# Altium schematic symbol library HW_HOLLAND_NCDM_MONITOR_R1.SchLib: 617 symbols (part 2 of 7)
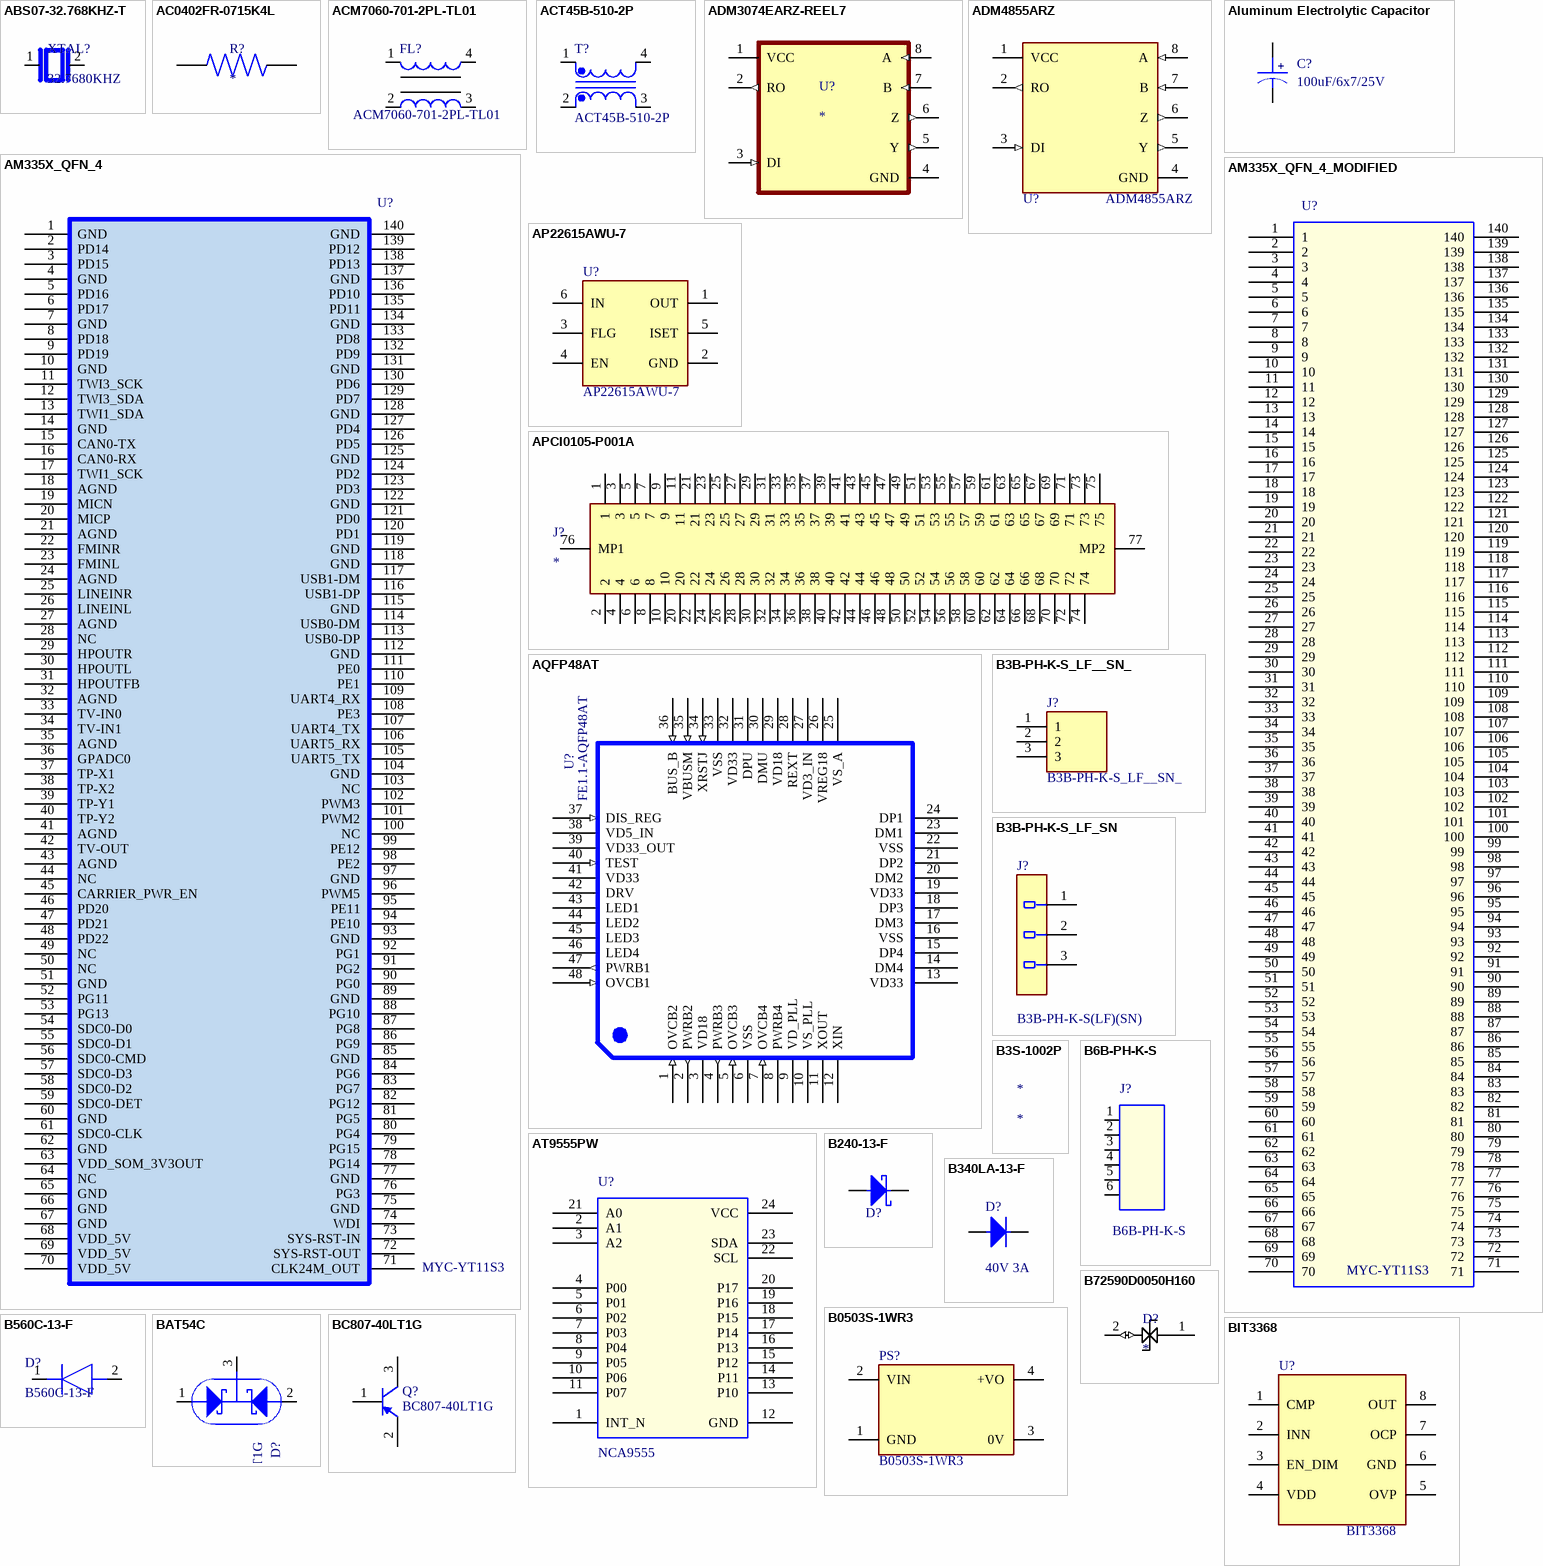
[diagram p20: symbols ABS07-32.768KHZ-T to BIT3368]

## AM335X_QFN_4_MODIFIED
designator U?, comment MYC-YT11S3
PCB Footprint: youpk37x39_1_00-smd-148
footprint youpk37x39_1_00-smd-148
pins: 1, 2, 3, 4, 5, 6, 7, 8, 9, 10, 11, 12, 13, 14, 15, 16, 17, 18, 19, 20, 21, 22, 23, 24, 25, 26, 27, 28, 29, 30, 31, 32, 33, 34, 35, 36, 37, 38, 39, 40, 41, 42, 43, 44, 45, 46, 47, 48, 49, 50, 51, 52, 53, 54, 55, 56, 57, 58, 59, 60, 61, 62, 63, 64, 65, 66, 67, 68, 69, 70, 71, 72, 73, 74, 75, 76, 77, 78, 79, 80, 81, 82, 83, 84, 85, 86, 87, 88, 89, 90, 91, 92, 93, 94, 95, 96, 97, 98, 99, 100, 101, 102, 103, 104, 105, 106, 107, 108, 109, 110, 111, 112, 113, 114, 115, 116, 117, 118, 119, 120, 121, 122, 123, 124, 125, 126, 127, 128, 129, 130, 131, 132, 133, 134, 135, 136, 137, 138, 139, 140

## AP22615AWU-7
designator U?, comment Manufacturer Part Number: AP22615AWU-7  (hidden comment: IC PWR SWTCH N/P-CHAN 1:1 TSOT26)
Power Switch/Driver 1:1 N/P-Channel 3A TSOT-26; Order Code: Digi: AP22615AWU-7DITR-ND; LCSC Manufacturer Part Number: AP22615AWU-7; LCSC Part Number: C2680357
footprint SOT95P280X100-6N
pins: 1 OUT, 2 GND, 3 FLG, 4 EN, 5 ISET, 6 IN

## APCI0105-P001A
designator J?
Connector; Manufacturer_Name: LOTES; Manufacturer_Part_Number: APCI0105-P001A; Datasheet Link: https://wmsc.lcsc.com/wmsc/upload/file/pdf/v2/lcsc/2010161204_LOTES-APCI0105-P001A_C841658.pdf; Height: 4.2mm
footprint APCI0105P001A
pins: 1, 2, 3, 4, 5, 6, 7, 8, 9, 10, 11, 20, 21, 22, 23, 24, 25, 26, 27, 28, 29, 30, 31, 32, 33, 34, 35, 36, 37, 38, 39, 40, 41, 42, 43, 44, 45, 46, 47, 48, 49, 50, 51, 52, 53, 54, 55, 56, 57, 58, 59, 60, 61, 62, 63, 64, 65, 66, 67, 68, 69, 70, 71, 72, 73, 74, 75, 76 MP1, 77 MP2

## AQFP48AT
designator U?, comment FE1.1-AQFP48AT
IC,USB 2.0 HIGH SPEED 4-PORT HUB CONTROLLER,QFN48,SMD,Terminus; PCB Footprint: LQFP48; Myir P/N: 20107.00076; Datasheet: FE1.1-AQFP48AT.pdf; Reserve Value: FE1.1-AQFP48AT; Manufacturer P/N: FE1.1-AQFP48AT; Manufacturer: Terminus; Part Type: Interface
footprint QFP48
footprint LQFP48
pins: 1 OVCB2 (in), 2 PWRB2 (out), 3 VD18 (power), 4 PWRB3 (out), 5 OVCB3 (in), 6 VSS (power), 7 OVCB4 (in), 8 PWRB4, 9 VD_PLL (power), 10 VS_PLL (power), 11 XOUT, 12 XIN, 13 VD33 (power), 14 DM4, 15 DP4, 16 VSS (power), 17 DM3, 18 DP3, 19 VD33 (power), 20 DM2, 21 DP2, 22 VSS (power), 23 DM1, 24 DP1, 25 VS_A (power), 26 VREG18 (power), 27 VD3_IN (power), 28 REXT, 29 VD18 (power), 30 DMU, 31 DPU, 32 VD33 (power), 33 VSS (power), 34 XRSTJ (in), 35 VBUSM (in), 36 BUS_B (in), 37 DIS_REG (in), 38 VD5_IN (power), 39 VD33_OUT (power), 40 TEST (in), 41 VD33 (power), 42 DRV, 43 LED1, 44 LED2, 45 LED3, 46 LED4, 47 PWRB1 (out), 48 OVCB1 (in)

## AT9555PW
designator U?, comment NCA9555
IC,16-bit I2C-bus I/O port with interrupt,TSSOP24,Novosense; Myir P/N: 20703.80023; Part Type: Interface; Manufacturer: Novosense; Manufacturer P/N: NCA9555; Reserve Value: NCA9555; Datasheet: NCA9555.pdf; PCB Footprint: TSSOP24
footprint TSSOP24
pins: 1 INT_N, 2 A1, 3 A2, 4 P00, 5 P01, 6 P02, 7 P03, 8 P04, 9 P05, 10 P06, 11 P07, 12 GND, 13 P10, 14 P11, 15 P12, 16 P13, 17 P14, 18 P15, 19 P16, 20 P17, 21 A0, 22 SCL, 23 SDA, 24 VCC

## B3B-PH-K-S_LF__SN_
designator J?
Connector; Manufacturer_Name: JST (JAPAN SOLDERLESS TERMINALS); Manufacturer_Part_Number: B3B-PH-K-S(LF)(SN); Datasheet Link: http://www.jst-mfg.com/product/pdf/eng/ePH.pdf; Height: 6mm; LCSC Manufacturer Part Number: B3B-PH-K-S(LF)(SN); Arrow Part Number: B3B-PH-K-S(LF)(SN); Arrow Price/Stock: https://www.arrow.com/en/products/b3b-ph-k-s-lf-sn/jst-manufacturing; LCSC Part Number: C131339
footprint SHDR3W50P0X200_1X3_790X450X600P
pins: 1, 2, 3

## B3B-PH-K-S_LF_SN
designator J?  (value not drawn)
Manufacturer Part Number: B3B-PH-K-S(LF)(SN); Order Code: DIGI : 455-1705-ND; Part Number: B3B-PH-K-S(LF)(SN)
footprint JST_B3B-PH-K-S_LF_SN_0
pins: 1, 2, 3

## B3S-1002P
designator *
Switch Tactile N.O. SPST Round Button Gull Wing 0.05A 24VDC 300000Cycles 2.26N SMD T/R; Manufacturer: Omron; Manufacturer Part Number: B3S-1002P; Number of Positions: 2NUMBER; Supplier 1: Digikey; RoHS: Yes; Category: Tactile Switches; Stock 1: 127000; Pricing 1: 1000=0.57994, 3000=0.52722, 5000=0.49207, 10000=0.45692 (USD); Contact Material: 150ConductorMaterial; Contact Plating: 159ConductorMaterial; Lead Free: 5697LeadFree; ComponentLink1URL: https://datasheet.ciiva.com/1701/490609-1701107.pdf?src-supplier=Newark; ComponentLink1Description: https://datasheet.ciiva.com/1701/490609-1701107.pdf?src-supplier=Newark; ComponentLink2URL: https://datasheet.ciiva.com/15198/getdatasheetpartid-174803-15198988.pdf?src-supplier=Verical; ComponentLink2Description: https://datasheet.ciiva.com/15198/getdatasheetpartid-174803-15198988.pdf?src-supplier=Verical; ComponentLink3URL: https://datasheet.ciiva.com/15198/getdatasheetpartid-388874-15198987.pdf?src-supplier=Verical; ComponentLink3Description: https://datasheet.ciiva.com/15198/getdatasheetpartid-388874-15198987.pdf?src-supplier=Verical; ComponentLink4URL: https://datasheet.ciiva.com/30228/en-b3s-30228152.pdf?src-supplier=Onlinecomponents.com; ComponentLink4Description: https://datasheet.ciiva.com/30228/en-b3s-30228152.pdf?src-supplier=Onlinecomponents.com; ComponentLink5URL: https://datasheet.ciiva.com/2899/b3s-1110-2899956.pdf?src-supplier=Digikey; ComponentLink5Description: https://datasheet.ciiva.com/2899/b3s-1110-2899956.pdf?src-supplier=Digikey; ComponentLink6URL: https://datasheet.ciiva.com/2899/b3s-1110-2899957.pdf?src-supplier=Digikey; ComponentLink6Description: https://datasheet.ciiva.com/2899/b3s-1110-2899957.pdf?src-supplier=Digikey; ComponentLink7URL: https://datasheet.ciiva.com/2899/b3s-1110-2899958.pdf?src-supplier=Digikey; ComponentLink7Description: https://datasheet.ciiva.com/2899/b3s-1110-2899958.pdf?src-supplier=Digikey; Supplier Part Number 1: SW837TR-ND

## B6B-PH-K-S
designator J?
Connector,Straight,Top type 6Pin 2.0mm Pitch H=6mm,DIP,JST; PCB Footprint: CONN-B6B-PH-K-S; Myir P/N: 21122.00013; Datasheet: B6B-PH-K-S.pdf; Reserve Value: B6B-PH-K-S; Manufacturer P/N: B6B-PH-K-S; Manufacturer: JST; Part Type: Connector
footprint B6B-PH-K-S
footprint CONN-B6B-PH-K-S
pins: 1, 2, 3, 4, 5, 6

## B240-13-F
designator D?, comment 40V 2A  (value not drawn)
Diode 40 V 2A Surface Mount SMB; Manufacturer Part Number: B240-13-F; Manufacturer: Diodes Incorporated
footprint Diodes_Inc._SMB_MFG
pins: 1 C, 2 A

## B340LA-13-F
designator D?, comment Rated: 40V 3A  (hidden comment: DIODE SCHOTTKY 40V 3A SMA)
Diode 40 V 3A Surface Mount SMA; Manufacturer Part Number: B340LA-13-F
footprint Diodes_SMA_0
pins: 1 C, 2 A

## B0503S-1WR3
designator PS?
Isolated Module DC DC Converter 1 Output 3.3V 303mA 4.5V - 5.5V Input; Manufacturer_Name: Mornsun Power; Height: 10.41mm; Manufacturer Part Number: B0503S-1WR3
footprint B0503S1WR3
pins: 1 GND, 2 VIN, 3 0V, 4 +VO

## B560C-13-F
designator D?
Manufacturer_Name: Diodes Incorporated; Datasheet Link: https://datasheet.lcsc.com/szlcsc/Diodes-Incorporated-B560C-13-F_C85100.pdf; Height: 2.5mm; Manufacturer_Part_Number: B560C-13-F; Mouser Part Number: 621-B560C-F; Mouser Price/Stock: https://www.mouser.co.uk/ProductDetail/Diodes-Incorporated/B560C-13-F?qs=OC0R%252Bhozcm%252BAsjMXklZLIw%3D%3D; Arrow Part Number: B560C-13-F; Arrow Price/Stock: https://www.arrow.com/en/products/b560c-13-f/diodes-incorporated?utm_currency=USD&region=nac
footprint DIOM7959X250N
pins: 1 K, 2 A

## B72590D0050H160
designator D?
VARISTOR 150V 0402; Manufacturer: TDK EPCOS; Manufacturer Part Number: B72590D0050H160; Supplier 1: Digikey; RoHS: Yes; Category: Varistors; Stock 1: 130000; Pricing 1: 10000=0,04977, 30000=0,04666, 50000=0,04137, 100000=0,04044, 250000=0,03982 (USD); ComponentLink1URL: https://datasheet.octopart.com/B72590D0050H160-EPCOS-datasheet-10468447.pdf?src-supplier=Newark; ComponentLink1Description: https://datasheet.octopart.com/B72590D0050H160-EPCOS-datasheet-10468447.pdf?src-supplier=Newark; ComponentLink2URL: https://en.tdk.eu/inf/75/ds/High_speed_series.pdf?src-supplier=Verical; ComponentLink2Description: https://en.tdk.eu/inf/75/ds/High_speed_series.pdf?src-supplier=Verical; ComponentLink3URL: http://www.farnell.com/datasheets/1706828.pdf?src-supplier=Newark; ComponentLink3Description: http://www.farnell.com/datasheets/1706828.pdf?src-supplier=Newark; ComponentLink4URL: https://en.tdk.eu/inf/75/ds/High_speed_series.pdf?src-supplier=Digikey; ComponentLink4Description: https://en.tdk.eu/inf/75/ds/High_speed_series.pdf?src-supplier=Digikey; ComponentLink5URL: https://www.tdk-electronics.tdk.com/inf/75/ds/High_speed_series.pdf?src-supplier=Digikey; ComponentLink5Description: https://www.tdk-electronics.tdk.com/inf/75/ds/High_speed_series.pdf?src-supplier=Digikey; ComponentLink6URL: https://en.tdk.eu/inf/75/ds/High_speed_series.pdf?src-supplier=Arrow+Electronics; ComponentLink6Description: https://en.tdk.eu/inf/75/ds/High_speed_series.pdf?src-supplier=Arrow+Electronics; ComponentLink7URL: https://en.tdk.eu/inf/75/ds/High_speed_series.pdf?src-supplier=Quest; ComponentLink7Description: https://en.tdk.eu/inf/75/ds/High_speed_series.pdf?src-supplier=Quest; ComponentLink8URL: https://datasheet.octopart.com/B72590D0050H160-EPCOS-datasheet-157245974.pdf?src-supplier=LKR; ComponentLink8Description: https://datasheet.octopart.com/B72590D0050H160-EPCOS-datasheet-157245974.pdf?src-supplier=LKR; ComponentLink9URL: https://en.tdk.eu/inf/75/ds/High_speed_series.pdf?src-supplier=TTI; ComponentLink9Description: https://en.tdk.eu/inf/75/ds/High_speed_series.pdf?src-supplier=TTI; Supplier Part Number 1: 495-3684-2-ND
footprint SOD1005X60N
pins: 1 GND, 2 I/OLINE (io)

## BAT54C
designator D?, comment LBAT54CLT1G
Diode Dual Schottky,30V,200mA,SMD,SOT-23,LRC; Myir P/N: 20701.00054; PCB Footprint: SOT-23; Part Type: Diode; Manufacturer: LRC; Manufacturer P/N: LBAT54CLT1G; Reserve Value: LBAT54CLT1G; Datasheet: LBAT54CLT1G.pdf
footprint SOT23T02
footprint SOT-23
pins: 1 ANODE, 2 NC, 3 CATHODE

## BC807-40LT1G
designator Q?
General Purpose Transistor, PNP Silicon, 3-Pin SOT-23, Pb-Free, Tape and Reel; Manufacturer: ON Semiconductor; Max Power Dissipation: 300mW; hFE Min: 250; Number of Elements: 1; Collector Emitter Voltage (VCEO): 45V; Frequency: 100MHz; Emitter Base Voltage (VEBO): 5V; Max Collector Current: 500mA; Collector Base Voltage (VCBO): 50V; Collector Emitter Saturation Voltage: -700mV; Element Configuration: Single; Collector-emitter Voltage-Max: 700mV; ComponentLink3URL: http://www.onsemi.cn/pub_link/Collateral/318-08.PDF; ComponentLink1URL: http://www.onsemi.com/; ComponentLink2URL: http://www.onsemi.com/pub_link/Collateral/BC807-16LT1-D.PDF; ComponentLink1Description: Manufacturer URL; ComponentLink3Description: Package Specification; ComponentLink2Description: Datasheet; Supplier 1: Digi-Key; Supplier Part Number 1: BC807-40LT1GOSCT-ND; Manufacturer Part Number: BC807-40LT1G; RoHS: Yes; Category: BJTs; Pricing 1: 1=0,21000, 10=0,19600, 100=0,10690, 500=0,06576, 1000=0,04484 (USD); Case/Package: SOT-23-3; Number of Pins: 3; Contact Plating: Tin,Matte; Min Operating Temperature: -55°C; Max Operating Temperature: 150°C; Package Quantity: 1; Packaging: Tape and Reel; Polarity: PNP; Transition Frequency: 100MHz; Collector Emitter Breakdown Voltage: 45V; Power Dissipation: 300mW; Gain Bandwidth Product: 100MHz; Series: BC807-40L; Max Breakdown Voltage: 45V; Max Frequency: 100MHz; Length: 2.9mm; Width: 1.3mm; Height: 0.94mm; Radiation Hardening: No; Lead Free: Lead Free; Halogen Free: Halogen Free; RoHS Compliant: Yes; REACH SVHC: No SVHC; ComponentLink4URL: https://datasheet.ciiva.com/15138/getdatasheetpartid-38541-15138619.pdf?src-supplier=Verical; ComponentLink4Description: https://datasheet.ciiva.com/15138/getdatasheetpartid-38541-15138619.pdf?src-supplier=Verical; ComponentLink5URL: https://datasheet.ciiva.com/976/bc807-16lt1-d-976422.pdf?src-supplier=Digi-Key; ComponentLink5Description: https://datasheet.ciiva.com/976/bc807-16lt1-d-976422.pdf?src-supplier=Digi-Key; ComponentLink6URL: https://datasheet.ciiva.com/976/bc807-16lt1-d-976423.pdf?src-supplier=Digi-Key; ComponentLink6Description: https://datasheet.ciiva.com/976/bc807-16lt1-d-976423.pdf?src-supplier=Digi-Key; ComponentLink7URL: https://datasheet.ciiva.com/976/bc807-16lt1-d-976424.pdf?src-supplier=Digi-Key; ComponentLink7Description: https://datasheet.ciiva.com/976/bc807-16lt1-d-976424.pdf?src-supplier=Digi-Key; ComponentLink8URL: https://datasheet.ciiva.com/22633/1575992-22633676.pdf?src-supplier=Element14; ComponentLink8Description: https://datasheet.ciiva.com/22633/1575992-22633676.pdf?src-supplier=Element14; ComponentLink9URL: https://datasheet.ciiva.com/16213/bc807-16lt1-d-16213981.pdf?src-supplier=Future+Electronics; ComponentLink9Description: https://datasheet.ciiva.com/16213/bc807-16lt1-d-16213981.pdf?src-supplier=Future+Electronics; ComponentLink10URL: https://datasheet.ciiva.com/22633/1575992-22633677.pdf?src-supplier=Element14; ComponentLink10Description: https://datasheet.ciiva.com/22633/1575992-22633677.pdf?src-supplier=Element14; ComponentLink11URL: https://datasheet.ciiva.com/25917/bc807-16lt1-d-25917198.pdf?src-supplier=Avnet+Europe; ComponentLink11Description: https://datasheet.ciiva.com/25917/bc807-16lt1-d-25917198.pdf?src-supplier=Avnet+Europe; LCSC Part Number: BC807-40LT1G
footprint ONSC-SOT-23-3-318-08_V
pins: 1 B, 2 E, 3 C

## BIT3368
designator U?, comment Manufacturer Part Number: BIT3368  (hidden comment: BIT3368 LED DRIVER CONTROLLER)
High Performance PWM Controller; Manufacturer: BITEK; LSCS Part Number: C5252694
footprint SOP-8_L4.9-W3.9-P1.27-LS6.0-BL
pins: 1 CMP, 2 INN, 3 EN_DIM, 4 VDD, 5 OVP, 6 GND, 7 OCP, 8 OUT

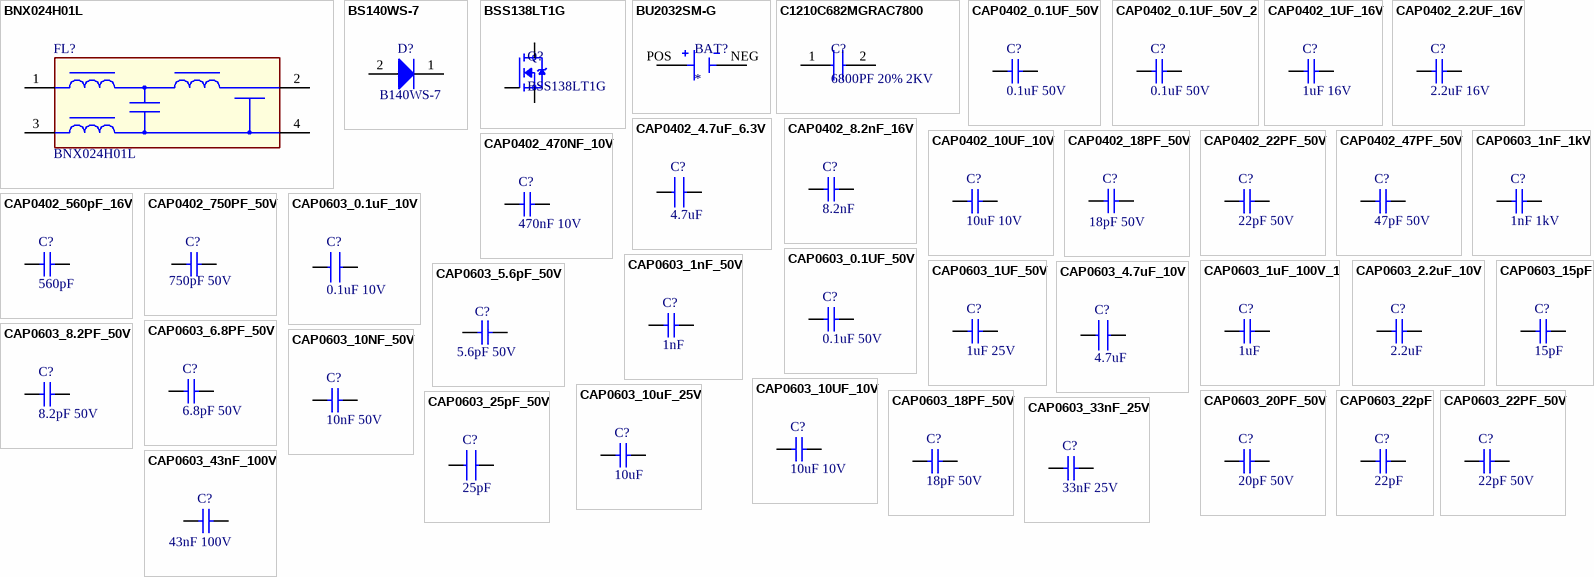
[diagram p2: symbols BNX024H01L to CAP0603_43nF_100V]

## BNX024H01L
designator FL?, comment Manufacturer Part Number: BNX024H01L  (hidden comment: FILTER LC 4.7UF SMD)
LC EMI Filter 5th Order Low Pass 2 Channel C = 4.7µF 20 A 4-SMD, No Lead; Order Code: Digi: 490-7833-2-ND; LCSC Manufacturer Part Number: BNX024H01L; LCSC Part Number: C124739
footprint Murata_BNX02_MFG
pins: 1 B, 2 CB, 3 PSG, 4 CG

## BS140WS-7
designator D?, comment Manufacturer Part Number: B140WS-7  (hidden comment: DIODE SCHOTTKY 40V 1A SOD323)
Diode 40 V 1A Surface Mount SOD-323; Order Code: Digi: B140WS-7DITR-ND; LCSC Manufacturer Part Number: B140WS-7; LCSC Part Number: C95171
footprint SOD-323_L1.8-W1.3-LS2.5-RD
pins: 1 K, 2 A

## BSS138LT1G
designator Q?
MOSFET N-CH 50V 200mA SOT-23; Manufacturer: ON Semiconductor; Gate to Source Voltage (Vgs): 5V; Rds On Max: 3.5R; Input Capacitance: 50pF; Max Power Dissipation: 225mW; Turn-Off Delay Time: 20ns; Element Configuration: Single; Polarity: N-CHANNEL; Number of Channels: 1; Supplier 1: Digikey; Manufacturer Part Number: BSS138LT1G; RoHS: Yes; Category: MOSFETs; Stock 1: 402000; Pricing 1: 3000=0.06451, 6000=0.05984, 9000=0.04962, 30000=0.04875, 75000=0.04378, 150000=0.03795 (USD); Case/Package: SOT-23-3; Number of Pins: 3; Weight: 0.001058oz; Min Operating Temperature: -55°C; Max Operating Temperature: 150°C; Continuous Drain Current (ID): 200mA; Package Quantity: 3000; Packaging: Tape and Reel; Drain to Source Resistance: 3.5R; Turn-On Delay Time: 20ns; Voltage Rating (DC): 50V; Current Rating: 200mA; Series: -; Length: 2.9mm; Width: 1.3mm; Height: 0.94mm; RoHS Compliant: Yes; Lead Free: Lead Free; Halogen Free: Halogen Free; ComponentLink1URL: https://datasheet.ciiva.com/22641/1596366-22641636.pdf?src-supplier=Element14; ComponentLink1Description: https://datasheet.ciiva.com/22641/1596366-22641636.pdf?src-supplier=Element14; ComponentLink2URL: https://datasheet.ciiva.com/1190/1596366-1190136.pdf?src-supplier=Element14; ComponentLink2Description: https://datasheet.ciiva.com/1190/1596366-1190136.pdf?src-supplier=Element14; ComponentLink3URL: https://datasheet.ciiva.com/1190/1596366-1190137.pdf?src-supplier=Element14; ComponentLink3Description: https://datasheet.ciiva.com/1190/1596366-1190137.pdf?src-supplier=Element14; ComponentLink4URL: https://datasheet.ciiva.com/14553/70099493-14553829.pdf?src-supplier=Allied+Electronics; ComponentLink4Description: https://datasheet.ciiva.com/14553/70099493-14553829.pdf?src-supplier=Allied+Electronics; ComponentLink5URL: https://datasheet.ciiva.com/8115/bss138lt1-d-8115295.pdf?src-supplier=Avnet; ComponentLink5Description: https://datasheet.ciiva.com/8115/bss138lt1-d-8115295.pdf?src-supplier=Avnet; ComponentLink6URL: https://datasheet.ciiva.com/15198/getdatasheetpartid-110266-15198908.pdf?src-supplier=Verical; ComponentLink6Description: https://datasheet.ciiva.com/15198/getdatasheetpartid-110266-15198908.pdf?src-supplier=Verical; Supplier Part Number 1: BSS138LT1GOSTR-ND
footprint SOT95P237X111-3N
pins: 1 G, 2 S, 3 D

## BU2032SM-G
designator BAT?
Battery Holder Coin 20MM SMD; Manufacturer: Memory Protection Devices; Manufacturer Part Number: BU2032SM-G; Number of Cells: 1; Number of Contacts: 2NUMBER; Supplier 1: Digikey; RoHS: Yes; Category: Uncategorized; Stock 1: 17897; Pricing 1: 400=0.81163, 800=0.76195, 1200=0.71225, 2800=0.646, 10000=0.5963 (USD); Mount: Surface Mount,PCB; Case/Package: SMD/SMT; Contact Material: 153,157ConductorMaterial; Min Operating Temperature: -40°C; Max Operating Temperature: 315°C; Termination: SMD/SMT; Series: -; Packaging: Cut Tape; Height: 5.3mm; ComponentLink1URL: https://datasheet.ciiva.com/7613/bu2032sm-g-datasheet-7613472.pdf?src-supplier=Digikey; ComponentLink1Description: https://datasheet.ciiva.com/7613/bu2032sm-g-datasheet-7613472.pdf?src-supplier=Digikey; Supplier Part Number 1: BU2032SM-GTR-ND
footprint BAT_BU2032SM-G
pins: NEG, POS

## C1210C682MGRAC7800
designator C?, comment 6800PF 20% 2KV
Cap Cer SMD 1210 6800PF 20% 2KV; Manufacturer: KEMET; Manufacturer Part Number: C1210C682MGRAC7800; Dielectric Material: 4241ConductorMaterial; Dielectric: 1511DielectricType; Supplier 1: Digikey; RoHS: No; Category: Ceramic Capacitors; Stock 1: 3000; Pricing 1: 1000=0.18921, 2000=0.17809, 5000=0.16695, 10000=0.15582, 25000=0.15026, 50000=0.14469 (USD); Voltage Rating (DC): 2kV; ComponentLink1URL: https://api.kemet.com/component-edge/download/datasheet/C1210C682MGRAC7800.pdf?src-supplier=Digikey; ComponentLink1Description: https://api.kemet.com/component-edge/download/datasheet/C1210C682MGRAC7800.pdf?src-supplier=Digikey; Supplier Part Number 1: 399-17670-2-ND
footprint CAPC3225X280N
pins: 1, 2

## CAP0402_0.1UF_50V
designator C?, comment value 0.1uF 50V  (hidden comment: CAP CER 0.1UF 50V X7R 0402)
0.1 µF ±10% 50V Ceramic Capacitor X7R 0402 (1005 Metric); Manufacturer Part Number: CL05B104KB54PNC; Order Code: DIGI: 1276-CL05B104KB54PNCTR-ND; Sirius Stock Code: *; LCSC Part Number: C307331; LCSC Manufacturer Part Number: CL05B104KB54PNC
footprint CAP0402(1005)x0.5
pins: 1, 2

## CAP0402_0.1UF_50V_2
designator C?, comment value 0.1uF 50V  (hidden comment: CAP CER 0.1UF 50V X7R 0402)
0.1 µF ±10% 50V Ceramic Capacitor X7R 0402 (1005 Metric); Manufacturer Part Number: CL05B104KB54PNC; Order Code: DIGI: 1276-CL05B104KB54PNCTR-ND; Sirius Stock Code: *; LCSC Part Number: C307331; LCSC Manufacturer Part Number: CL05B104KB54PNC
footprint CAP0402(1005)x0.5
pins: 1, 2

## CAP0402_1UF_16V
designator C?, comment value 1uF 16V  (hidden comment: CAP CER 1UF 16V X5R 0402)
1 µF ±10% 16V Ceramic Capacitor X5R 0402 (1005 Metric); Manufacturer Part Number: CL05A105KO5NNNC; Order Code: DIGI: 1276-1067-2-ND; Sirius Stock Code: *; LCSC Part Number: C29266; LCSC Manufacturer Part Number: CL05A105KO5NNNC
footprint CAP0402(1005)x0.5
pins: 1, 2

## CAP0402_2.2UF_16V
designator C?, comment value 2.2uF 16V  (hidden comment: CAP CER 2.2UF 16V X5R 0402)
2.2 µF ±10% 16V Ceramic Capacitor X5R 0402 (1005 Metric); Manufacturer Part Number: CL05A225KO5NQNC; Order Code: DIGI: 1276-1461-2-ND; Sirius Stock Code: *; LCSC Part Number: C170151; LCSC Manufacturer Part Number: CL05A225KO5NQNC
footprint CAP0402(1005)x0.5
pins: 1, 2

## CAP0402_4.7uF_6.3V
designator C?, comment 4.7uF
4.7 µF ±20% 6.3V Ceramic Capacitor X5R 0402 (1005 Metric); Manufacturer Part Number: GRM155R60J475ME87D; Manufacturer Name: TDK Corporation; Capacitance: 4.7uF 6.3V; Tolerance: ±10%; Voltage - Rated: 6.3V
footprint CAP0402
pins: 1, 2

## CAP0402_8.2nF_16V
designator C?, comment 8.2nF
8200 pF ±10% 16V Ceramic Capacitor X7R 0402 (1005 Metric); Manufacturer Part Number: GRM155R71C822KA01D; LCSC Manufacturer Part Number: CL05C150JB5NNNC; Order Code: DIGI: 1276-1179-2-ND; Sirius Stock Code: *; LCSC Part Number: C86285; Value: 8.2nF
footprint CAP0402
pins: 1, 2

## CAP0402_10UF_10V
designator C?, comment value 10uF 10V  (hidden comment: CAP CER 10UF 10V X5R 0402)
10 µF ±20% 10V Ceramic Capacitor X5R 0402 (1005 Metric); Manufacturer Part Number: CL05A106MP5NUNC; Order Code: DIGI: 1276-1450-2-ND; Sirius Stock Code: *; LCSC Part Number: C315248; LCSC Manufacturer Part Number: CL05A106MP5NUNC
footprint CAP0402(1005)x0.5
pins: 1, 2

## CAP0402_18PF_50V
designator C?, comment value 18pF 50V  (hidden comment: CAP CER 18PF 50V C0G/NPO 0402)
18 pF ±5% 50V Ceramic Capacitor C0G, NP0 0402 (1005 Metric); Manufacturer Part Number: CC0402JRNPO9BN180; Order Code: DIGI: 311-1415-2-ND; Sirius Stock Code: *; LCSC Part Number: C106202; LCSC Manufacturer Part Number: CC0402JRNPO9BN180
footprint CAP0402(1005)x0.5
pins: 1, 2

## CAP0402_22PF_50V
designator C?, comment value 22pF 50V  (hidden comment: CAP CER 22PF 50V C0G/NPO 0402)
22 pF ±5% 50V Ceramic Capacitor C0G, NP0 0402 (1005 Metric); Manufacturer Part Number: CC0402JRNPO9BN220; Order Code: DIGI: 311-1018-2-ND; Sirius Stock Code: *; LCSC Part Number: C106203; LCSC Manufacturer Part Number: CC0402JRNPO9BN220
footprint CAP0402(1005)x0.5
pins: 1, 2

## CAP0402_47PF_50V
designator C?, comment value 47pF 50V  (hidden comment: CAP CER 47PF 50V C0G/NPO 0402)
47 pF ±5% 50V Ceramic Capacitor C0G, NP0 0402 (1005 Metric); Manufacturer Part Number: CC0402JRNPO9BN470; Order Code: DIGI: 311-1021-2-ND; Sirius Stock Code: *; LCSC Part Number: C60137; LCSC Manufacturer Part Number: CC0402JRNPO9BN470
footprint CAP0402(1005)x0.5
pins: 1, 2

## CAP0402_470NF_10V
designator C?, comment value 470nF 10V  (hidden comment: CAP CER 0.47UF 10V X5R 0402)
0.47 µF ±10% 10V Ceramic Capacitor X5R 0402 (1005 Metric); Manufacturer Part Number: CL05A474KP5NNNC; Order Code: DIGI: 1276-1173-2-ND; Sirius Stock Code: *; LCSC Part Number: C47339; LCSC Manufacturer Part Number: CL05A474KP5NNNC
footprint CAP0402(1005)x0.5
pins: 1, 2

## CAP0402_560pF_16V
designator C?, comment 560pF
560 pF ±1% 16V Ceramic Capacitor X8R 0402 (1005 Metric); Manufacturer Part Number: C0402C561F4HACAUTO; LCSC Manufacturer Part Number: CL05C150JB5NNNC; Order Code: DIGI: 1276-1179-2-ND; Sirius Stock Code: *; LCSC Part Number: C86285; Value: 560pF
footprint CAP0402
pins: 1, 2

## CAP0402_750PF_50V
designator C?, comment value 750pF 50V  (hidden comment: CAP CER 750PF 50V C0G/NP0 0402)
750 pF ±5% 50V Ceramic Capacitor C0G, NP0 0402 (1005 Metric); Manufacturer Part Number: GCM1555C1H751JA16D; Order Code: DIGI: 490-GCM1555C1H751JA16DTR-ND; Sirius Stock Code: *; LCSC Part Number: C710656; LCSC Manufacturer Part Number: GCM1555C1H751JA16D
footprint CAP0402(1005)x0.5
pins: 1, 2

## CAP0603_0.1uF_10V
designator C?, comment 0.1uF 10V
0.1 µF ±10% 10V Ceramic Capacitor X7R 0603 (1608 Metric); Manufacturer Name: AVX; Manufacturer Part Number: 0603ZC104KAT2A; Datasheet Link: https://componentsearchengine.com/Datasheets/1/06031A100FAT2A.pdf; Height: 0.9mm; Mouser Part Number: 581-0603ZC104K; Mouser Price/Stock: https://www.mouser.co.uk/ProductDetail/AVX/0603ZC104KAT2A?qs=pf7pOjfHGZYfu9op9dQPDA%3D%3D; Arrow Part Number: 0603ZC104KAT2A; Arrow Price/Stock: https://www.arrow.com/en/products/0603zc104kat2a/avx
footprint CAP0603
pins: 1, 2

## CAP0603_0.1UF_50V
designator C?, comment value 0.1uF 50V  (hidden comment: CAP CER 0.1UF 50V X7R 0603)
0.1 µF ±10% 50V Ceramic Capacitor X7R 0603 (1608 Metric); Manufacturer Part Number: CL10B104KB8NNNL; LCSC Manufacturer Part Number: CL10B104KB8NNNC; Order Code: DIGI:1276-CL10B104KB8NNNLTR-ND; Sirius Stock Code: A063-AGC10300001226; LCSC Part Number: C1591
footprint SMC0603
pins: 1, 2

## CAP0603_1nF_1kV
designator C?, comment 1nF 1kV
1000 pF ±10% 1000V (1kV) Ceramic Capacitor X7R 0603 (1608 Metric); Manufacturer Part Number: C0603W102KDRACAUTO; Order Code: DIGI:1276-CL10B104KB8NNNLTR-ND; Sirius Stock Code: A063-AGC10300001226; Value: 1nF 1kV
footprint CAP0603 (CAPACITOR 0603)
pins: 1, 2

## CAP0603_1nF_50V
designator C?, comment 1nF
1000 pF ±10% 50V Ceramic Capacitor X7R 0603 (1608 Metric); Manufacturer Part Number: CL10B102KB8NNNC; Order Code: DIGI:1276-CL10B104KB8NNNLTR-ND; Sirius Stock Code: A063-AGC10300001226; Value: 1nF 50V
footprint CAP0603 (CAPACITOR 0603)
pins: 1, 2

## CAP0603_1UF_50V
designator C?, comment value 1uF 25V  (hidden comment: CAP CER 1UF 25V X5R 0603)
1 µF ±10% 25V Ceramic Capacitor X5R 0603 (1608 Metric); Manufacturer Part Number: CL10A105KA8NNNC; Order Code: Digi: 1276-1102-2-ND; Sirius Stock Code: *; LCSC Part Number: C5673; LCSC Manufacturer Part Number: CL10A105KA8NNNC
footprint SMC0603
pins: 1, 2

## CAP0603_1uF_100V_1
designator C?, comment value 1uF  (hidden comment: 1uF 100V)
1 µF ±10% 100V Ceramic Capacitor X7R 0805 (2012 Metric); Manufacturer Part Number: 08051C105K4Z2A; Order Code: DIGI : 399-1061-1-ND
footprint CAP0603
pins: 1, 2

## CAP0603_2.2uF_10V
designator C?, comment 2.2uF
2.2 µF ±10% 10V Ceramic Capacitor X5R 0603 (1608 Metric); Manufacturer Name: KEMET; Manufacturer Part Number: C0603C225K8PAC7867; Datasheet Link: https://componentsearchengine.com/Datasheets/1/06031A100FAT2A.pdf; Height: 0.9mm
footprint CAP0603
pins: 1, 2

## CAP0603_4.7uF_10V
designator C?, comment 4.7uF
4.7 µF ±20% 10V Ceramic Capacitor X5R 0603 (1608 Metric); Manufacturer Name: Murata Electronics; Manufacturer Part Number: GRM185R61A475ME11D; Datasheet Link: https://componentsearchengine.com/Datasheets/1/06031A100FAT2A.pdf; Height: 0.9mm
footprint CAP0603
pins: 1, 2

## CAP0603_5.6pF_50V
designator C?, comment value 5.6pF 50V  (hidden comment: 5.6pF)
5.6 pF ±5% 50V Ceramic Capacitor C0G, NP0 0603 (1608 Metric); Manufacturer Part Number: GRM1885C1H751JA01D; Order Code: DIGI:1276-CL10B104KB8NNNLTR-ND; Sirius Stock Code: A063-AGC10300001226
footprint CAP0603 (CAPACITOR 0603)
pins: 1, 2

## CAP0603_6.8PF_50V
designator C?, comment value 6.8pF 50V  (hidden comment: CAP CER 6.8PF 50V C0G, NP0 0603)
50V 6.8pF C0G 0603 Multilayer Ceramic Capacitors MLCC - SMD/SMT ROHS; Manufacturer Part Number: 0603CG6R8C500NT; Order Code: LCSC: C1679; Sirius Stock Code: *; LCSC Part Number: C1679; LCSC Manufacturer Part Number: 0603CG6R8C500NT
footprint SMC0603
pins: 1, 2

## CAP0603_8.2PF_50V
designator C?, comment value 8.2pF 50V  (hidden comment: CAP CER 8.2PF 50V C0G/NPO 0603)
8.2 pF ±0.25pF 50V Ceramic Capacitor C0G, NP0 0603 (1608 Metric); Manufacturer Part Number: CC0603CRNPO9BN8R2; Order Code: DIGI : 311-3865-2-ND; LCSC Manufacturer Part Number: CC0603CRNPO9BN8R2; LCSC Part Number: C277519
footprint SMC0603
pins: 1, 2

## CAP0603_10NF_50V
designator C?, comment value 10nF 50V  (hidden comment: CAP CER 10000PF 50V X7R 0603)
10000 pF ±10% 50V Ceramic Capacitor X7R 0603 (1608 Metric); Manufacturer Part Number: CL10B103KB8NNNC; Order Code: DIGI : 1276-1009-2-ND; LCSC Manufacturer Part Number: CL10B103KB8NNNC; LCSC Part Number: C1589
footprint SMC0603
pins: 1, 2

## CAP0603_10UF_10V
designator C?, comment value 10uF 10V  (hidden comment: CAP CER 10UF 10V X5R 0603)
10 µF ±10% 10V Ceramic Capacitor X5R 0603 (1608 Metric); Manufacturer Part Number: CL10A106KP8NNNC; Order Code: DIGI: 1276-1192-2-ND; Sirius Stock Code: *; LCSC Part Number: C19702; LCSC Manufacturer Part Number: CL10A106KP8NNNC
footprint SMC0603
pins: 1, 2

## CAP0603_10uF_25V
designator C?, comment 10uF
10 µF ±10% 25V Ceramic Capacitor X5R 0603 (1608 Metric); Manufacturer Part Number: GRM188R61E106KA73J; Order Code: DIGI:1276-CL10B104KB8NNNLTR-ND; Sirius Stock Code: A063-AGC10300001226; Value: 10uF
footprint CAP0603 (CAPACITOR 0603)
pins: 1, 2

## CAP0603_15pF
designator C?, comment 15pF
CAP CER 15PF 50V C0G/NP0 0603; P/N: 06035A150JAT4A; Order Code: DIGI : 478-10677-1-ND; Value: 15pF 50V
footprint CAP0603 (CAPACITOR 0603)
pins: 1, 2

## CAP0603_18PF_50V
designator C?, comment value 18pF 50V  (hidden comment: CAP CER 18PF 50V C0G/NPO 0603)
18 pF ±5% 50V Ceramic Capacitor C0G, NP0 0603 (1608 Metric); Manufacturer Part Number: CC0603JRNPO9BN180; Order Code: DIGI : 311-1061-2-ND; LCSC Manufacturer Part Number: CC0603JRNPO9BN180; LCSC Part Number: C107040
footprint SMC0603
pins: 1, 2

## CAP0603_20PF_50V
designator C?, comment value 20pF 50V  (hidden comment: CAP CER 20PF 50V C0G/NPO 0603)
20 pF ±5% 50V Ceramic Capacitor C0G, NP0 0603 (1608 Metric); Manufacturer Part Number: CC0603JRNPO9BN200; Order Code: DIGI: 311-1424-2-ND; Sirius Stock Code: *; LCSC Part Number: C105621; LCSC Manufacturer Part Number: CC0603JRNPO9BN200
footprint CAP0603
pins: 1, 2

## CAP0603_22pF
designator C?, comment value 22pF  (hidden comment: 100nF 25V)
22pF; Manufacturer Part Number: CL10B104KA8NNNC; LCSC Part Number: C1590
footprint CAP0603 (CAPACITOR 0603)
pins: 1, 2

## CAP0603_22PF_50V
designator C?, comment value 22pF 50V  (hidden comment: CAP CER 22PF 50V C0G/NPO 0603)
22 pF ±5% 50V Ceramic Capacitor C0G, NP0 0603 (1608 Metric); Manufacturer Part Number: CC0603JRNPO9BN220; Order Code: DIGI: 311-1062-2-ND; Sirius Stock Code: *; LCSC Part Number: C105620; LCSC Manufacturer Part Number: CC0603JRNPO9BN220
footprint SMC0603
pins: 1, 2

## CAP0603_25pF_50V
designator C?, comment 25pF
25 pF ±2% 50V Ceramic Capacitor C0G, NP0 0603 (1608 Metric); Manufacturer Name: KYOCERA AVX; Manufacturer Part Number: 06035A250GAT2A; Datasheet Link: https://componentsearchengine.com/Datasheets/1/06031A100FAT2A.pdf; Height: 0.9mm
footprint CAP0603
pins: 1, 2

## CAP0603_33nF_25V
designator C?, comment value 33nF 25V  (hidden comment: CAP CER 0.033UF 25V X7R 0603)
0.033 µF ±10% 25V Ceramic Capacitor X7R 0603 (1608 Metric); Manufacturer Part Number: 0603B333K250CT; Order Code: DIGI:1276-CL10B104KB8NNNLTR-ND; Sirius Stock Code: A063-AGC10300001226
footprint CAP0603 (CAPACITOR 0603)
pins: 1, 2

## CAP0603_43nF_100V
designator C?, comment 43nF 100V
4300 pF ±5% 100V Ceramic Capacitor C0G, NP0 1206 (3216 Metric)); Manufacturer Part Number: C0603C122K5RAC7867; Order Code: DIGI:1276-CL10B104KB8NNNLTR-ND; Sirius Stock Code: A063-AGC10300001226; Value: 43pF 50V
footprint CAP0603 (CAPACITOR 0603)
pins: 1, 2

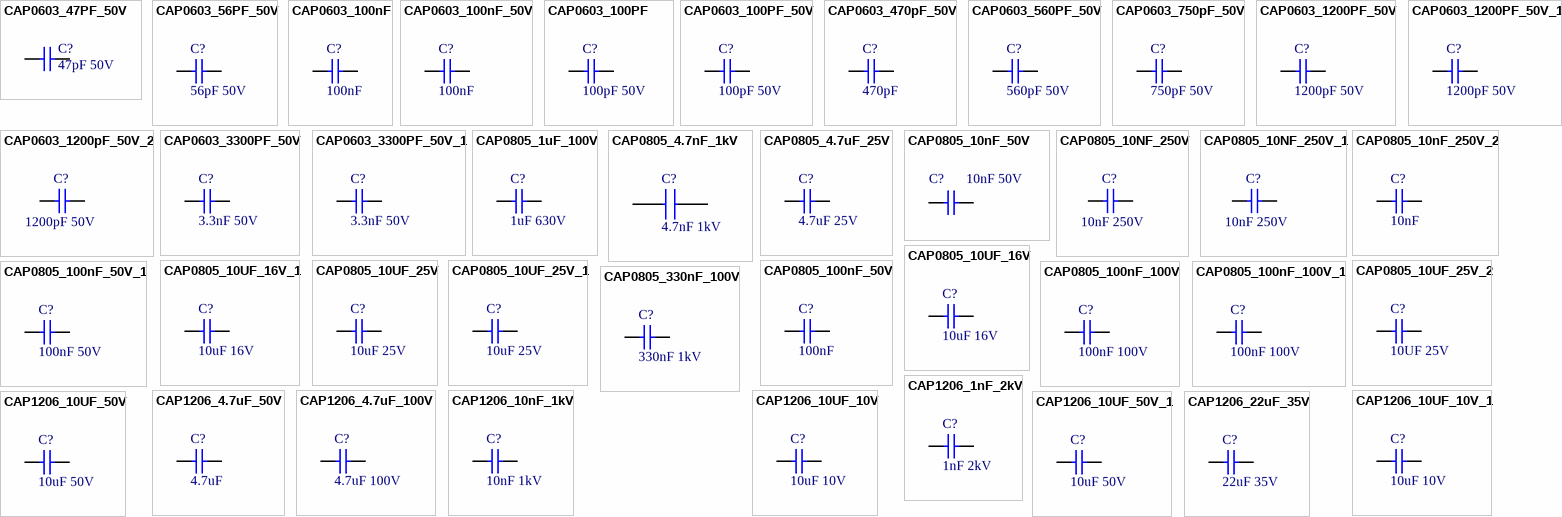
[diagram p3: symbols CAP0603_47PF_50V to CAP1206_22uF_35V]

## CAP0603_47PF_50V
designator C?, comment value 47pF 50V  (hidden comment: CAP CER 47PF 50V C0G/NPO 0603)
47 pF ±5% 50V Ceramic Capacitor C0G, NP0 0603 (1608 Metric); Manufacturer Part Number: CC0603JRNPO9BN470; Order Code: DIGI : 311-1065-2-ND; LCSC Manufacturer Part Number: CC0603JRNPO9BN470; LCSC Part Number: C105622
footprint SMC0603
pins: 1, 2

## CAP0603_56PF_50V
designator C?, comment value 56pF 50V  (hidden comment: CAP CER 56PF 50V C0G/NPO 0603)
56 pF ±5% 50V Ceramic Capacitor C0G, NP0 0603 (1608 Metric); Manufacturer Part Number: CC0603JRNPO9BN560; Order Code: DIGI : 311-1066-2-ND; LCSC Manufacturer Part Number: CC0603JRNPO9BN560; LCSC Part Number: C107053
footprint SMC0603
pins: 1, 2

## CAP0603_100nF
designator C?, comment value 100nF  (hidden comment: 100nF 25V)
0.1 µF ±10% 50V Ceramic Capacitor X7R 0603 (1608 Metric); Manufacturer Part Number: CL10B104KA8NNNC; LCSC Part Number: C1590
footprint CAP0603 (CAPACITOR 0603)
pins: 1, 2

## CAP0603_100nF_50V
designator C?, comment 100nF
0.1 µF ±10% 50V Ceramic Capacitor X7R 0603 (1608 Metric); Manufacturer Name: KEMET; Manufacturer Part Number: C0603C104K5RAC7867; Datasheet Link: https://componentsearchengine.com/Datasheets/1/06031A100FAT2A.pdf; Height: 0.9mm
footprint CAP0603
pins: 1, 2

## CAP0603_100PF
designator C?, comment value 100pF 50V  (hidden comment: CAP CER 100PF 50V C0G/NP0 0603)
100 pF ±5% 50V Ceramic Capacitor C0G, NP0 0603 (1608 Metric); Manufacturer Part Number: CL10C101JB8NNNC; LCSC Part Number: C14858
footprint CAP0603 (CAPACITOR 0603)
pins: 1, 2

## CAP0603_100PF_50V
designator C?, comment value 100pF 50V  (hidden comment: CAP CER 100PF 50V C0G/NP0 0603)
100 pF ±5% 50V Ceramic Capacitor C0G, NP0 0603 (1608 Metric); Manufacturer Part Number: 06035A101JAT2A; LCSC Manufacturer Part Number: CC0603JRNPO9BN101; Order Code: DIGI: 478-1175-2-ND; Sirius Stock Code: *; LCSC Part Number: C14665
footprint SMC0603
pins: 1, 2

## CAP0603_470pF_50V
designator C?, comment 470pF
470 pF ±5% 50V Ceramic Capacitor X7R 0603 (1608 Metric); Manufacturer Part Number: CL10B471JB8NNNC; Value: 470pF 50V; Order Code: DIGI : 399-1061-1-ND
footprint CAP0603
pins: 1, 2

## CAP0603_560PF_50V
designator C?, comment value 560pF 50V  (hidden comment: CAP CER 560PF 50V X7R 0603)
560 pF ±10% 50V Ceramic Capacitor X7R 0603 (1608 Metric); Manufacturer Part Number: CC0603KRX7R9BB561; Order Code: DIGI : 311-1079-2-ND; LCSC Manufacturer Part Number: CC0603KRX7R9BB561; LCSC Part Number: C107094
footprint SMC0603
pins: 1, 2

## CAP0603_750pF_50V
designator C?, comment 750pF 50V
750 pF ±5% 50V Ceramic Capacitor C0G, NP0 0603 (1608 Metric); Manufacturer Part Number: GRM1885C1H751JA01D; Order Code: DIGI:1276-CL10B104KB8NNNLTR-ND; Sirius Stock Code: A063-AGC10300001226; Value: 750pF 50V
footprint CAP0603 (CAPACITOR 0603)
pins: 1, 2

## CAP0603_1200PF_50V
designator C?, comment value 1200pF 50V  (hidden comment: CAP CER 1200PF 50V X7R 0603)
1200 pF ±10% 50V Ceramic Capacitor X7R 0603 (1608 Metric); Manufacturer Part Number: C0603C122K5RAC7867; Order Code: DIGI : 399-C0603C122K5RAC7867TR-ND; LCSC Manufacturer Part Number: C0603C122K5RAC7867; LCSC Part Number: C2168436
footprint SMC0603
pins: 1, 2

## CAP0603_1200PF_50V_1
designator C?, comment value 1200pF 50V  (hidden comment: CAP CER 1200PF 50V X7R 0603)
1200 pF ±10% 50V Ceramic Capacitor X7R 0603 (1608 Metric); Manufacturer Part Number: C0603C122K5RAC7867; Order Code: DIGI : 399-C0603C122K5RAC7867TR-ND; LCSC Manufacturer Part Number: C0603C122K5RAC7867; LCSC Part Number: C2168436
footprint SMC0603
pins: 1, 2

## CAP0603_1200pF_50V_2
designator C?, comment 1200pF 50V
1200 pF ±10% 50V Ceramic Capacitor X7R 0603 (1608 Metric); Manufacturer Part Number: C0603C122K5RAC7867; Order Code: DIGI:1276-CL10B104KB8NNNLTR-ND; Sirius Stock Code: A063-AGC10300001226; Value: 1200pF 50V
footprint CAP0603 (CAPACITOR 0603)
pins: 1, 2

## CAP0603_3300PF_50V
designator C?, comment value 3.3nF 50V  (hidden comment: CAP CER 3300PF 50V X7R 0603)
3300 pF ±10% 50V Ceramic Capacitor X7R 0603 (1608 Metric); Manufacturer Part Number: CC0603KRX7R9BB332; Order Code: Digi: 311-1082-2-ND; Sirius Stock Code: *; LCSC Part Number: C107088; LCSC Manufacturer Part Number: CC0603KRX7R9BB332
footprint SMC0603
pins: 1, 2

## CAP0603_3300PF_50V_1
designator C?, comment value 3.3nF 50V  (hidden comment: CAP CER 3300PF 50V X7R 0603)
3300 pF ±10% 50V Ceramic Capacitor X7R 0603 (1608 Metric); Manufacturer Part Number: CC0603KRX7R9BB332; Order Code: Digi: 311-1082-2-ND; Sirius Stock Code: *; LCSC Part Number: C107088; LCSC Manufacturer Part Number: CC0603KRX7R9BB332
footprint SMC0603
pins: 1, 2

## CAP0805_1uF_100V
designator C?, comment 1uF 630V
1 µF ±10% 100V Ceramic Capacitor X7R 0805 (2012 Metric); Manufacturer Part Number: 08051C105K4Z2A; Value: 1uF 100V; Order Code: DIGI : 399-1061-1-ND
footprint CAP0805
pins: 1, 2

## CAP0805_4.7nF_1kV
designator C?, comment 4.7nF 1kV
4700 pF ±10% 1000V (1kV) Ceramic Capacitor X7R 0805 (2012 Metric); Manufacturer_Name: Samsung Electro-Mechanics; Manufacturer Part Number: C0805C472KDRAC7800; Datasheet Link: https://www.yageo.com/upload/media/product/productsearch/datasheet/mlcc/UPY-GPHC_X5R_4V-to-50V_27.pdf; Height: 1.45mm; Value: 4.7nF 1kV; Mouser Price/Stock: https://www.mouser.co.uk/ProductDetail/YAGEO/CC0805KKX5R8BB106?qs=57cj7OiSijm89pM64t1AGQ%3D%3D
footprint CAP0805
pins: 1, 2

## CAP0805_4.7uF_25V
designator C?, comment 4.7uF 25V
4.7 µF ±10% 25V Ceramic Capacitor X5R 0805 (2012 Metric); Manufacturer_Name: Samsung Electro-Mechanics; Manufacturer Part Number: CL21A475KAQNNNE; Datasheet Link: https://www.yageo.com/upload/media/product/productsearch/datasheet/mlcc/UPY-GPHC_X5R_4V-to-50V_27.pdf; Height: 1.45mm; Mouser Part Number: 603-CC805KKX5R8BB106; Mouser Price/Stock: https://www.mouser.co.uk/ProductDetail/YAGEO/CC0805KKX5R8BB106?qs=57cj7OiSijm89pM64t1AGQ%3D%3D
footprint CAP0805
pins: 1, 2

## CAP0805_10nF_50V
designator C?, comment 10nF 50V
10000 pF ±10% 50V Ceramic Capacitor X7R 0805 (2012 Metric); Manufacturer_Name: TDK Corporation; Manufacturer Part Number: 08055C103KAT2A; Datasheet Link: https://www.yageo.com/upload/media/product/productsearch/datasheet/mlcc/UPY-GPHC_X5R_4V-to-50V_27.pdf; Height: 1.45mm; Mouser Part Number: 603-CC805KKX5R8BB106; Mouser Price/Stock: https://www.mouser.co.uk/ProductDetail/YAGEO/CC0805KKX5R8BB106?qs=57cj7OiSijm89pM64t1AGQ%3D%3D
footprint CAP0805
pins: 1, 2

## CAP0805_10NF_250V
designator C?, comment value 10nF 250V  (hidden comment: CAP CER 10NF 250V X7R 0805)
250V 10nF X7R ±10% 0805 Multilayer Ceramic Capacitors MLCC - SMD/SMT ROHS; Manufacturer Part Number: TCC0805X7R103K251DT; Order Code: LCSC: C282726; LCSC Manufacturer Part Number: TCC0805X7R103K251DT; LCSC Part Number: C282726
footprint SMC0805
pins: 1, 2

## CAP0805_10NF_250V_1
designator C?, comment value 10nF 250V  (hidden comment: CAP CER 10NF 250V X7R 0805)
250V 10nF X7R ±10% 0805 Multilayer Ceramic Capacitors MLCC - SMD/SMT ROHS; Manufacturer Part Number: TCC0805X7R103K251DT; Order Code: LCSC: C282726; LCSC Manufacturer Part Number: TCC0805X7R103K251DT; LCSC Part Number: C282726
footprint SMC0805
pins: 1, 2

## CAP0805_10nF_250V_2
designator C?, comment 10nF
CAP CER 10000PF 250V X7R 0805; P/N: CGA4J3X7R2E103K125AE; Order Code: DIGI : 445-8781-1-ND; Value: 10nF
footprint CAP0805
pins: 1, 2

## CAP0805_10UF_16V
designator C?, comment value 10uF 16V  (hidden comment: CAP CER 10UF 16V X7R 0805)
10 µF ±10% 16V Ceramic Capacitor X7R 0805 (2012 Metric); Manufacturer Part Number: CL21B106KOQNNNE; Order Code: DIGI: 1276-2872-2-ND; Sirius Stock Code: *; LCSC Manufacturer Part Number: CL21B106KOQNNNE; LCSC Part Number: C95841
footprint CAP0805
pins: 1, 2

## CAP0805_10UF_16V_1
designator C?, comment value 10uF 16V  (hidden comment: CAP CER 10UF 16V X7R 0805)
10 µF ±10% 16V Ceramic Capacitor X7R 0805 (2012 Metric); Manufacturer Part Number: CL21B106KOQNNNE; Order Code: DIGI: 1276-2872-2-ND; Sirius Stock Code: *; LCSC Manufacturer Part Number: CL21B106KOQNNNE; LCSC Part Number: C95841
footprint CAP0805
pins: 1, 2

## CAP0805_10UF_25V
designator C?, comment value 10uF 25V  (hidden comment: CAP CER 10UF 25V X5R 0805)
10 µF ±10% 25V Ceramic Capacitor X5R 0805 (2012 Metric); Manufacturer Part Number: CL21A106KAYNNNE; Order Code: DIGI: 1276-2891-2-ND; Sirius Stock Code: *; LCSC Manufacturer Part Number: CL21A106KAYNNNE; LCSC Part Number: C15850
footprint SMC0805
pins: 1, 2

## CAP0805_10UF_25V_1
designator C?, comment value 10uF 25V  (hidden comment: CAP CER 10UF 25V X5R 0805)
10 µF ±10% 25V Ceramic Capacitor X5R 0805 (2012 Metric); Manufacturer Part Number: CL21A106KAYNNNE; Order Code: DIGI: 1276-2891-2-ND; Sirius Stock Code: *; LCSC Manufacturer Part Number: CL21A106KAYNNNE; LCSC Part Number: C15850
footprint SMC0805
pins: 1, 2

## CAP0805_10UF_25V_2
designator C?, comment 10UF 25V
10 µF ±10% 25V Ceramic Capacitor X5R 0805 (2012 Metric); Manufacturer_Name: Yageo; Manufacturer Part Number: CC0805KKX5R8BB106; Datasheet Link: https://www.yageo.com/upload/media/product/productsearch/datasheet/mlcc/UPY-GPHC_X5R_4V-to-50V_27.pdf; Height: 1.45mm; Mouser Part Number: 603-CC805KKX5R8BB106; Mouser Price/Stock: https://www.mouser.co.uk/ProductDetail/YAGEO/CC0805KKX5R8BB106?qs=57cj7OiSijm89pM64t1AGQ%3D%3D
footprint CAP0805
pins: 1, 2

## CAP0805_100nF_50V
designator C?, comment 100nF
0.1 µF ±10% 50V Ceramic Capacitor X7R 0805 (2012 Metric); Manufacturer Part Number: CGA4J2X7R1H104K125AA; Manufacturer_Name: TDK Corporation; Datasheet Link: https://www.yageo.com/upload/media/product/productsearch/datasheet/mlcc/UPY-GPHC_X5R_4V-to-50V_27.pdf; Height: 1.45mm; Mouser Part Number: 603-CC805KKX5R8BB106; Mouser Price/Stock: https://www.mouser.co.uk/ProductDetail/YAGEO/CC0805KKX5R8BB106?qs=57cj7OiSijm89pM64t1AGQ%3D%3D
footprint CAP0805
pins: 1, 2

## CAP0805_100nF_50V_1
designator C?, comment 100nF 50V
0.1 µF ±10% 50V Ceramic Capacitor X7R 0805 (2012 Metric); Manufacturer Part Number: CGA4J2X7R1H104K125AA; Manufacturer_Name: TDK Corporation; Datasheet Link: https://www.yageo.com/upload/media/product/productsearch/datasheet/mlcc/UPY-GPHC_X5R_4V-to-50V_27.pdf; Height: 1.45mm; Mouser Part Number: 603-CC805KKX5R8BB106; Mouser Price/Stock: https://www.mouser.co.uk/ProductDetail/YAGEO/CC0805KKX5R8BB106?qs=57cj7OiSijm89pM64t1AGQ%3D%3D
footprint CAP0805
pins: 1, 2

## CAP0805_100nF_100V
designator C?, comment value 100nF 100V  (hidden comment: CAP CER 0.1UF 100V X7R 0805)
0.1 µF ±10% 100V Ceramic Capacitor X7R 0805 (2012 Metric); Manufacturer Part Number: CL21B104KCFNNNE; Order Code: DIGI : 1276-6840-1-ND; LCSC Manufacturer Part Number: CL21B104KCFNNNE; LCSC Part Number: C28233
footprint SMC0805
pins: 1, 2

## CAP0805_100nF_100V_1
designator C?, comment value 100nF 100V  (hidden comment: CAP CER 0.1UF 100V X7R 0805)
0.1 µF ±10% 100V Ceramic Capacitor X7R 0805 (2012 Metric); Manufacturer Part Number: CL21B104KCFNNNE; Order Code: DIGI : 1276-6840-1-ND; LCSC Manufacturer Part Number: CL21B104KCFNNNE; LCSC Part Number: C28233
footprint SMC0805
pins: 1, 2

## CAP0805_330nF_100V
designator C?, comment 330nF 1kV
330nF  ±10% 100V Ceramic Capacitor X7S 0805 (2012 Metric); Manufacturer Part Number: CGA4J3X7S2A334K125AB; Value: 330nF 100V; Order Code: DIGI : 399-1061-1-ND
footprint CAP0805
pins: 1, 2

## CAP1206_1nF_2kV
designator C?, comment 1nF 2kV
1000 pF ±10% 2000V (2kV) Ceramic Capacitor X7R 1206 (3216 Metric); Manufacturer Part Number: CC1206KKX7RDBB102; Order Code: DIGI : 445-180362-1-ND; Value: 1nF 2kV
footprint CAP1206
pins: 1, 2

## CAP1206_4.7uF_50V
designator C?, comment 4.7uF
4.7 µF ±10% 50V Ceramic Capacitor X5R 1206 (3216 Metric); Manufacturer Part Number: CL31A475KBHNNNE; Value: 4.7uF 50V; Order Code: DIGI : 399-1061-1-ND
footprint CAP1206
pins: 1, 2

## CAP1206_4.7uF_100V
designator C?, comment 4.7uF 100V
4.7 µF ±10% 100V Ceramic Capacitor X7S 1206 (3216 Metric); Manufacturer Part Number: 12061Z475KAT2A; Order Code: DIGI : 445-180362-1-ND; Value: 4.7uF 100V
footprint CAP1206
pins: 1, 2

## CAP1206_10nF_1kV
designator C?, comment 10nF 1kV
10000 pF ±10% 1000V (1kV) Ceramic Capacitor X7R 1206 (3216 Metric); Manufacturer Part Number: C1206X103KDRACAUTO; Order Code: DIGI : 445-180362-1-ND; Value: 10nF 1kV
footprint CAP1206
pins: 1, 2

## CAP1206_10UF_10V
designator C?, comment value 10uF 10V  (hidden comment: CAP CER 10UF 10V X7R 1206)
10 µF ±10% 10V Ceramic Capacitor X7R 1206 (3216 Metric); Manufacturer Part Number: CL31B106KPHNNNE; Order Code: Digi: 1276-1311-2-ND; Sirius Stock Code: *; LCSC Part Number: C96449; LCSC Manufacturer Part Number: CL31B106KPHNNNE
footprint SMC1206
pins: 1, 2

## CAP1206_10UF_10V_1
designator C?, comment value 10uF 10V  (hidden comment: CAP CER 10UF 10V X7R 1206)
10 µF ±10% 10V Ceramic Capacitor X7R 1206 (3216 Metric); Manufacturer Part Number: CL31B106KPHNNNE; Order Code: Digi: 1276-1311-2-ND; Sirius Stock Code: *; LCSC Part Number: C96449; LCSC Manufacturer Part Number: CL31B106KPHNNNE
footprint SMC1206
pins: 1, 2

## CAP1206_10UF_50V
designator C?, comment value 10uF 50V  (hidden comment: CAP CER 10UF 50V X5R 1206)
10 µF ±10% 50V Ceramic Capacitor X5R 1206 (3216 Metric); Manufacturer Part Number: CL31A106KBHNNNE; Order Code: Digi: 1276-2876-2-ND; Sirius Stock Code: *; LCSC Part Number: C13585; LCSC Manufacturer Part Number: CL31A106KBHNNNE
footprint SMC1206
pins: 1, 2

## CAP1206_10UF_50V_1
designator C?, comment value 10uF 50V  (hidden comment: CAP CER 10UF 50V X5R 1206)
10 µF ±10% 50V Ceramic Capacitor X5R 1206 (3216 Metric); Manufacturer Part Number: CL31A106KBHNNNE; Order Code: Digi: 1276-2876-2-ND; Sirius Stock Code: *; LCSC Part Number: C13585; LCSC Manufacturer Part Number: CL31A106KBHNNNE
footprint SMC1206
pins: 1, 2

## CAP1206_22uF_35V
designator C?, comment 22uF 35V
22 µF ±20% 35V Ceramic Capacitor X5R 1206 (3216 Metric); Manufacturer Part Number: C3216X5R1V226M160AC; Order Code: DIGI : 445-180362-1-ND; Value: 22uF 35V
footprint CAP1206
pins: 1, 2

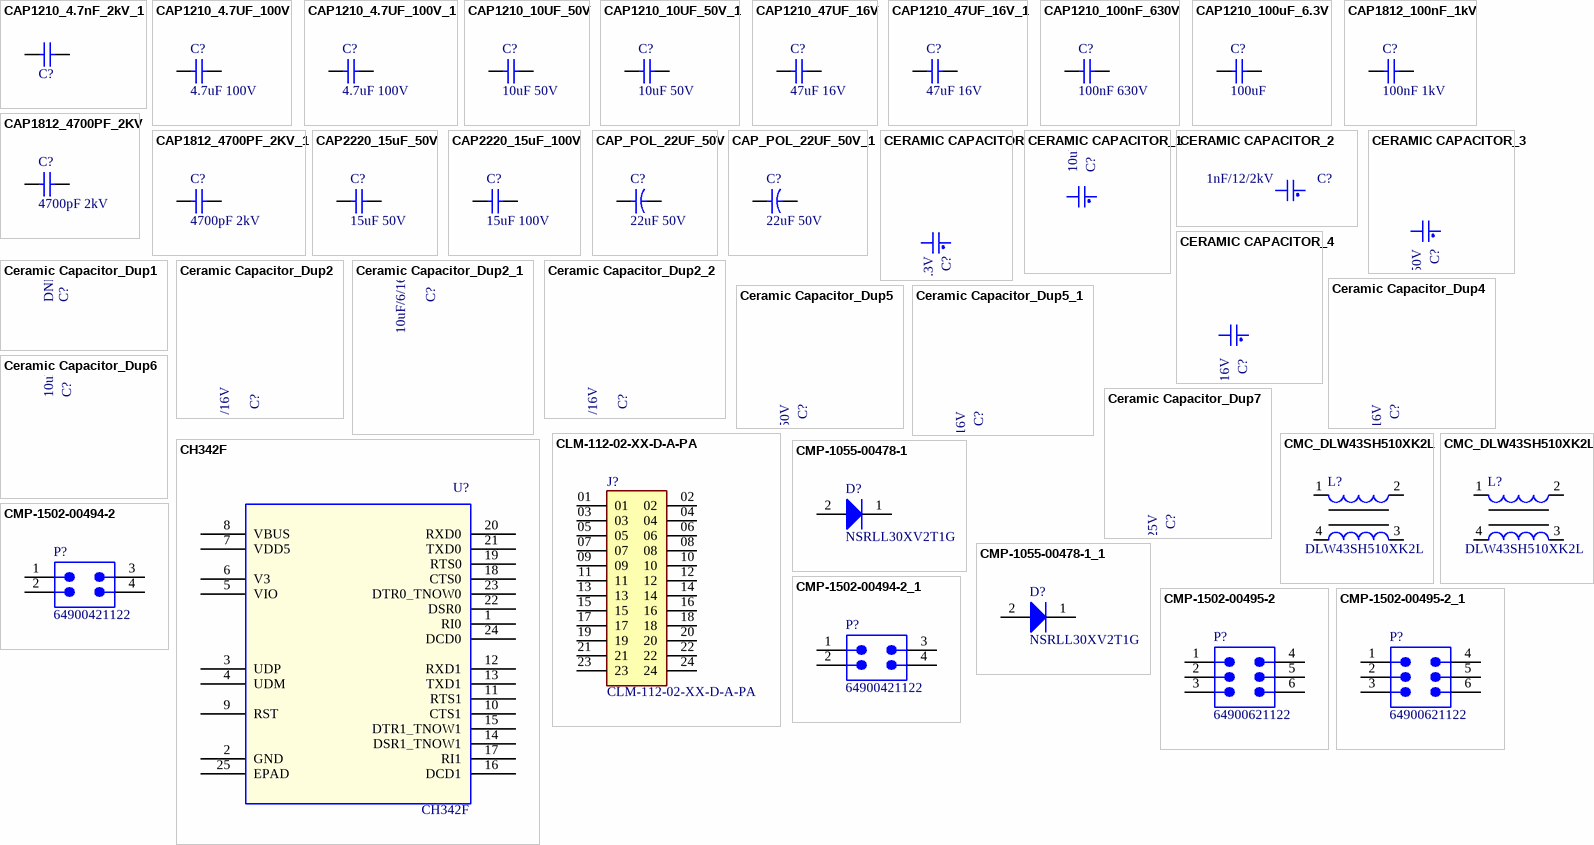
[diagram p4: symbols CAP1210_4.7nF_2kV_1 to CMP-1502-00495-2_1]

## CAP1210_4.7nF_2kV_1
designator C?, comment 4.7nF 2kV  (value not drawn)
4700 pF ±10% 2000V (2kV) Ceramic Capacitor X7R 1210 (3225 Metric); Manufacturer: KEMET; Manufacturer Part Number: C1210C472KGRAC7800; Value: 4.7nF 2kV
footprint CAP1210
pins: 1, 2

## CAP1210_4.7UF_100V
designator C?, comment value 4.7uF 100V  (hidden comment: CAP CER 4.7UF 100V X7S 1210)
4.7 µF ±10% 100V Ceramic Capacitor X7S 1210 (3225 Metric); Manufacturer Part Number: CL32Y475KCIVPNE; Order Code: Digi: 1276-CL32Y475KCIVPNETR-ND; LCSC Manufacturer Part Number: CL32Y475KCIVPNE; LCSC Part Number: C2803397
footprint CAP1210 (CAPACITOR 1210)
pins: 1, 2

## CAP1210_4.7UF_100V_1
designator C?, comment value 4.7uF 100V  (hidden comment: CAP CER 4.7UF 100V X7S 1210)
4.7 µF ±10% 100V Ceramic Capacitor X7S 1210 (3225 Metric); Manufacturer Part Number: CL32Y475KCIVPNE; Order Code: Digi: 1276-CL32Y475KCIVPNETR-ND; LCSC Manufacturer Part Number: CL32Y475KCIVPNE; LCSC Part Number: C2803397
footprint CAP1210 (CAPACITOR 1210)
pins: 1, 2

## CAP1210_10UF_50V
designator C?, comment value 10uF 50V  (hidden comment: CAP CER 10UF 50V X7R 1210)
50V 10uF X7R 1210 Multilayer Ceramic Capacitors MLCC - SMD/SMT ROHS; Manufacturer Part Number: CS3225X7R106K500NRL; Order Code: LCSC: C2918502; LCSC Manufacturer Part Number: CS3225X7R106K500NRL; LCSC Part Number: C2918502
footprint CAP1210 (CAPACITOR 1210)
pins: 1, 2

## CAP1210_10UF_50V_1
designator C?, comment value 10uF 50V  (hidden comment: CAP CER 10UF 50V X7R 1210)
50V 10uF X7R 1210 Multilayer Ceramic Capacitors MLCC - SMD/SMT ROHS; Manufacturer Part Number: CS3225X7R106K500NRL; Order Code: LCSC: C2918502; LCSC Manufacturer Part Number: CS3225X7R106K500NRL; LCSC Part Number: C2918502
footprint CAP1210 (CAPACITOR 1210)
pins: 1, 2

## CAP1210_47UF_16V
designator C?, comment value 47uF 16V  (hidden comment: CAP CER 47UF 16V X5R 1210)
16V 47uF X5R ±10% 1210 Multilayer Ceramic Capacitors MLCC - SMD/SMT ROHS; Manufacturer Part Number: CS3225X5R476K160NRL; Order Code: LCSC: C2918513; LCSC Manufacturer Part Number: CS3225X5R476K160NRL; LCSC Part Number: C2918513
footprint CAP1210 (CAPACITOR 1210)
pins: 1, 2

## CAP1210_47UF_16V_1
designator C?, comment value 47uF 16V  (hidden comment: CAP CER 47UF 16V X5R 1210)
16V 47uF X5R ±10% 1210 Multilayer Ceramic Capacitors MLCC - SMD/SMT ROHS; Manufacturer Part Number: CS3225X5R476K160NRL; Order Code: LCSC: C2918513; LCSC Manufacturer Part Number: CS3225X5R476K160NRL; LCSC Part Number: C2918513
footprint CAP1210 (CAPACITOR 1210)
pins: 1, 2

## CAP1210_100nF_630V
designator C?, comment 100nF 630V
0.1 µF ±10% 630V Ceramic Capacitor X7T 1210 (3225 Metric); Manufacturer Part Number: CGA6N3X7R2A225K230AB; Manufacturer: KEMET; Value: 2.2uF 100V
footprint CAP1210
pins: 1, 2

## CAP1210_100uF_6.3V
designator C?, comment 100uF
100 µF ±20% 6.3V Ceramic Capacitor X6S 1210 (3225 Metric); Manufacturer: KEMET; Manufacturer Part Number: GRM32EC80J107ME20L; Value: 100uF 6.3V
footprint CAP1210
pins: 1, 2

## CAP1812_100nF_1kV
designator C?, comment 100nF 1kV
0.1 µF ±10% 1000V (1kV) Ceramic Capacitor X7R 1812 (4532 Metric); Manufacturer Part Number: C1812C104KDRACAUTO; Order Code: DIGI : 399-1061-1-ND; Value: 100nF 1kV
footprint CAP0805
pins: 1, 2

## CAP1812_4700PF_2KV
designator C?, comment value 4700pF 2kV  (hidden comment: CAP CER 4700PF 2KV X7R 1812)
2kV 4.7nF X7R ±10% 1812 Multilayer Ceramic Capacitors MLCC - SMD/SMT ROHS; Manufacturer Part Number: 202S43W472KV4E; Order Code: *; Sirius Stock Code: *; LCSC Part Number: C167436; LCSC Manufacturer Part Number: 202S43W472KV4E
footprint CAP1812
pins: 1, 2

## CAP1812_4700PF_2KV_1
designator C?, comment value 4700pF 2kV  (hidden comment: CAP CER 4700PF 2KV X7R 1812)
2kV 4.7nF X7R ±10% 1812 Multilayer Ceramic Capacitors MLCC - SMD/SMT ROHS; Manufacturer Part Number: 202S43W472KV4E; Order Code: *; Sirius Stock Code: *; LCSC Part Number: C167436; LCSC Manufacturer Part Number: 202S43W472KV4E
footprint CAP1812
pins: 1, 2

## CAP2220_15uF_50V
designator C?, comment 15uF 50V
15 µF ±20% 50V Ceramic Capacitor X7R 2220 (5750 Metric); Manufacturer Part Number: KTS500B156M55N0T00; Manufacturer_Name: United Chemi-Con; Datasheet Link: https://datasheet.datasheetarchive.com/originals/distributors/Datasheets_SAMA/4dde93649cc607ddd6bfb541015cc4fa.pdf; Height: 2.8mm; Mouser Part Number: 661-KTS500B156M55N0T; Mouser Price/Stock: https://www.mouser.co.uk/ProductDetail/United-Chemi-Con/KTS500B156M55N0T00?qs=JdmRl75CwTr2quLDQvdd6Q%3D%3D
footprint CAP2220
pins: 1, 2

## CAP2220_15uF_100V
designator C?, comment 15uF 100V
15 µF ±20% 100V Ceramic Capacitor X7S 2220 (5750 Metric); Manufacturer Part Number: CGA9P3X7S2A156M250KB; Manufacturer_Name: United Chemi-Con; Datasheet Link: https://datasheet.datasheetarchive.com/originals/distributors/Datasheets_SAMA/4dde93649cc607ddd6bfb541015cc4fa.pdf; Height: 2.8mm; Mouser Part Number: 661-KTS500B156M55N0T; Mouser Price/Stock: https://www.mouser.co.uk/ProductDetail/United-Chemi-Con/KTS500B156M55N0T00?qs=JdmRl75CwTr2quLDQvdd6Q%3D%3D
footprint CAP2220
pins: 1, 2

## CAP_POL_22UF_50V
designator C?, comment value 22uF 50V  (hidden comment: 22uF 50V ±20% SMD,D6.3xL5.4mm Aluminum Electrolytic Capacitors - SMD ROHS)
Manufacturer Part Number: CS1H220M-CRE54; Order Code: LCSC: C98744; LCSC Manufacturer Part Number: CS1H220M-CRE54; LCSC Part Number: C98744
footprint CAP-SMD_BD6.3-L6.6-W6.6-FD
pins: 1, 2